# Altium footprint library MDM25PBSP.PcbLib: 1 footprints
Each footprint in its own frame and in the unit in brackets; x right, y up, seen from the top. Pads: shape width x height; smd on the part's side, far side on the other; paste and mask are expansions set on the pad; w line width, h text height; cw(c..) or ccw(c..) is an arc to the next point about the centre after c.
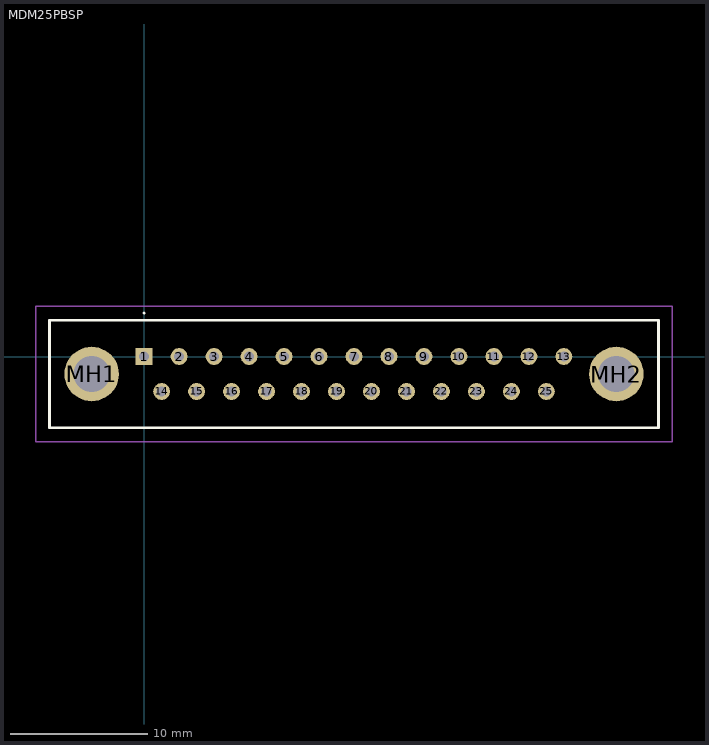
[diagram p0: the footprint, top view; thin cyan lines are the x and y axes]

## MDM25PBSP [mm]
pads (27):
  rect 1.219x1.219 hole 0.711: 1(0,0)
  round 1.219 hole 0.711: 2(2.54,0) 3(5.08,0) 4(7.62,0) 5(10.16,0) 6(12.7,0) 7(15.24,0) 8(17.78,0) 9(20.32,0) 10(22.86,0) 11(25.4,0) 12(27.94,0) 13(30.48,0) 14(1.27,-2.54) 15(3.81,-2.54) 16(6.35,-2.54) 17(8.89,-2.54) 18(11.43,-2.54) 19(13.97,-2.54) 20(16.51,-2.54) 21(19.05,-2.54) 22(21.59,-2.54) 23(24.13,-2.54) 24(26.67,-2.54) 25(29.21,-2.54)
  round 3.96 hole 2.64: MH1(-3.81,-1.27) MH2(34.29,-1.27)
Top Overlay:
  lines w0.1: 0,3.1 cw(c0,3.15) 0,3.2 ; 0,3.1 0,3.1 ; 0,3.1 ccw(c0,3.15) 0,3.2 ; 0,3.2 0,3.2
  lines w0.2: -6.86,-5.18 37.34,-5.18 37.34,2.64 -6.86,2.64 -6.86,-5.18
Mechanical 15:
  lines w0.1: -6.86,-5.18 37.34,-5.18 37.34,2.64 -6.86,2.64 -6.86,-5.18
Mechanical 20:
  lines w0.1: -7.86,-6.18 38.34,-6.18 38.34,3.64 -7.86,3.64 -7.86,-6.18